# Altium footprint library Mill-Max Manufacturing.PcbLib: 2 footprints
Each footprint in its own frame and in the unit in brackets; x right, y up, seen from the top. Pads: shape width x height; smd on the part's side, far side on the other; paste and mask are expansions set on the pad; w line width, h text height; cw(c..) or ccw(c..) is an arc to the next point about the centre after c.
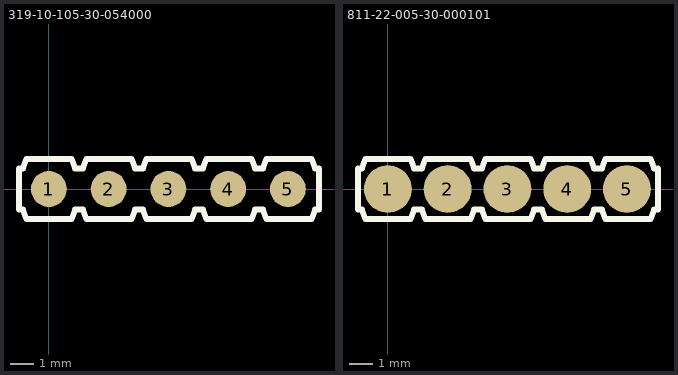
[diagram p0: the footprints below, top view; thin cyan lines are the x and y axes]

## 319-10-105-30-054000 [mil]
height 87.01
pads (5):
  round 60 smd: 1(0,0) 2(100,0) 3(200,0) 4(300,0) 5(400,0)
Top Overlay:
  lines w10: -50,-34.25 -43.7,-34.25 -37.79,-50 38.19,-50 44.1,-34.25 56.69,-34.25 62.6,-50 138.58,-50 144.49,-34.25 157.09,-34.25 162.99,-50 238.98,-50 244.88,-34.25 257.48,-34.25 263.39,-50 339.37,-50 345.28,-34.25 357.88,-34.25 363.78,-50 439.77,-50 445.67,-34.25 451.97,-34.25 451.97,34.25 445.67,34.25 439.77,50 363.78,50 357.88,34.25 345.28,34.25 339.37,50 263.39,50 257.48,34.25 244.88,34.25 238.98,50 162.99,50 157.09,34.25 144.49,34.25 138.58,50 62.6,50 56.69,34.25 44.1,34.25 38.19,50 -37.79,50 -43.7,34.25 -50,34.25 -50,-34.25
3D body "mill-max-319-10-105-30-054000.step": height 87.01, standoff 0.01, extent -50,-50 450,50

## 811-22-005-30-000101 [mil]
height 137.01
pads (5):
  round 80 smd: 1(0,0) 2(100,0) 3(200,0) 4(300,0) 5(400,0)
Top Overlay:
  lines w10: -50,-34.25 -43.7,-34.25 -37.79,-50 38.19,-50 44.1,-34.25 56.69,-34.25 62.6,-50 138.58,-50 144.49,-34.25 157.09,-34.25 162.99,-50 238.98,-50 244.88,-34.25 257.48,-34.25 263.39,-50 339.37,-50 345.28,-34.25 357.88,-34.25 363.78,-50 439.77,-50 445.67,-34.25 451.97,-34.25 451.97,34.25 445.67,34.25 439.77,50 363.78,50 357.88,34.25 345.28,34.25 339.37,50 263.39,50 257.48,34.25 244.88,34.25 238.98,50 162.99,50 157.09,34.25 144.49,34.25 138.58,50 62.6,50 56.69,34.25 44.1,34.25 38.19,50 -37.79,50 -43.7,34.25 -50,34.25 -50,-34.25
3D body "mill-max-811-22-005-30-000101.step": height 137.01, standoff 0.01, extent -50,-50 450,50